# Altium footprint library SOJ-32_300mil.PcbLib: 1 footprints
Each footprint in its own frame and in the unit in brackets; x right, y up, seen from the top. Pads: shape width x height; smd on the part's side, far side on the other; paste and mask are expansions set on the pad; w line width, h text height; cw(c..) or ccw(c..) is an arc to the next point about the centre after c.
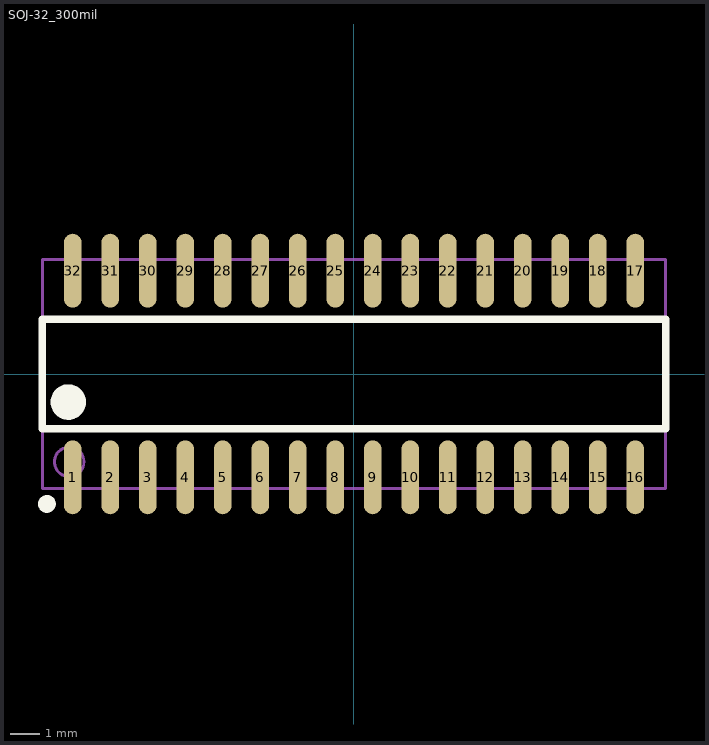
[diagram p0: the footprint, top view; thin cyan lines are the x and y axes]

## SOJ-32_300mil [mm]
pads (32):
  oval 0.6x2.5 smd: 1(-9.525,-3.5) 2(-8.255,-3.5) 3(-6.985,-3.5) 4(-5.715,-3.5) 5(-4.445,-3.5) 6(-3.175,-3.5) 7(-1.905,-3.5) 8(-0.635,-3.5) 9(0.635,-3.5) 10(1.905,-3.5) 11(3.175,-3.5) 12(4.445,-3.5) 13(5.715,-3.5) 14(6.985,-3.5) 15(8.255,-3.5) 16(9.525,-3.5) 17(9.525,3.5) 18(8.255,3.5) 19(6.985,3.5) 20(5.715,3.5) 21(4.445,3.5) 22(3.175,3.5) 23(1.905,3.5) 24(0.635,3.5) 25(-0.635,3.5) 26(-1.905,3.5) 27(-3.175,3.5) 28(-4.445,3.5) 29(-5.715,3.5) 30(-6.985,3.5) 31(-8.255,3.5) 32(-9.525,3.5)
Top Overlay:
  circle w0.6: c-9.675,-0.95 r0.3
  circle w0.3: c-10.4,-4.4 r0.15
  lines w0.254: -10.55,-1.85 -10.55,1.85 10.55,1.85 10.55,-1.85 -10.55,-1.85
Mechanical 13:
  circle w0.1: c-9.645,-2.975 r0.5
  lines w0.1: -10.545,-3.875 -10.545,3.875 10.545,3.875 10.545,-3.875 -10.545,-3.875